# EAGLE library part PWM (library PWM_I2C)
PWM I2C
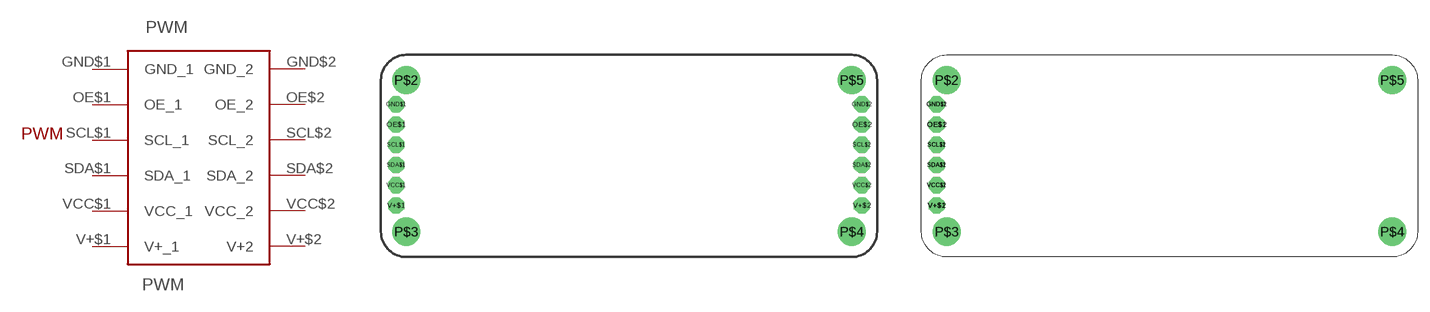
[diagram p0: symbol with the pads of PWM; footprints PWM, PWM_LEFT]

Designator prefix PWM

## PWMPCB  [PWM]
GND$1  GND_1
GND$2  GND_2
OE$1  OE_1
OE$2  OE_2
SCL$1  SCL_1
SCL$2  SCL_2
SDA$1  SDA_1
SDA$2  SDA_2
V+$1  V+_1
V+$2  V+2
VCC$1  VCC_1
VCC$2  VCC_2

## PWMPWM_2  [PWM_LEFT]
Pads as for PWM

## Footprint PWM (pad centres in mm)
rthfghfhg
drill 1.016 pad 2.032 octagon: GND$1 -24.765,5.588; GND$2 33.655,5.588; OE$1 -24.765,3.048; OE$2 33.655,3.048; SCL$1 -24.765,0.508; SCL$2 33.655,0.508; SDA$1 -24.765,-2.032; SDA$2 33.655,-2.032; V+$1 -24.765,-7.112; V+$2 33.655,-7.112; VCC$1 -24.765,-4.572; VCC$2 33.655,-4.572
drill 2.54 pad 3.302: P$2 -23.495,8.636; P$3 -23.495,-10.414; P$4 32.385,-10.414; P$5 32.385,8.636

## Footprint PWM_LEFT (pad centres in mm)
rthfghfhg
drill 1.016 pad 2.032 octagon: GND$1 -24.765,5.588; GND$2 -24.765,5.588; OE$1 -24.765,3.048; OE$2 -24.765,3.048; SCL$1 -24.765,0.508; SCL$2 -24.765,0.508; SDA$1 -24.765,-2.032; SDA$2 -24.765,-2.032; V+$1 -24.765,-7.112; V+$2 -24.765,-7.112; VCC$1 -24.765,-4.572; VCC$2 -24.765,-4.572
drill 2.54 pad 3.302: P$2 -23.495,8.636; P$3 -23.495,-10.414; P$4 32.385,-10.414; P$5 32.385,8.636